# EAGLE library part CAMERA (library hw6_lib)
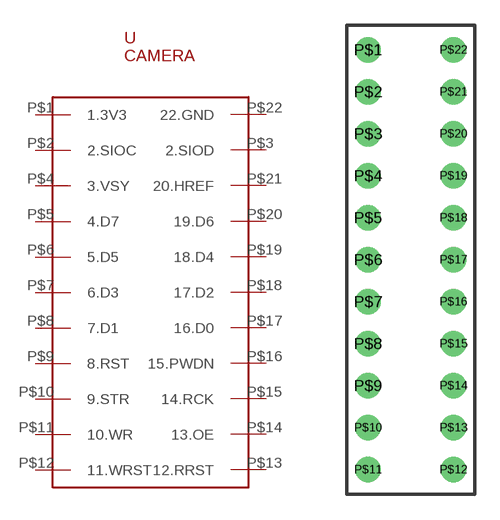
[diagram p11: symbol with the pads of CAMERA; footprint CAMERA]

Designator prefix -

## CAMERA  [CAMERA]
P$1  1.3V3
P$2  2.SIOC
P$3  2.SIOD
P$4  3.VSY
P$5  4.D7
P$6  5.D5
P$7  6.D3
P$8  7.D1
P$9  8.RST
P$10  9.STR
P$11  10.WR
P$12  11.WRST
P$13  12.RRST
P$14  13.OE
P$15  14.RCK
P$16  15.PWDN
P$17  16.D0
P$18  17.D2
P$19  18.D4
P$20  19.D6
P$21  20.HREF
P$22  22.GND

## Footprint CAMERA (pad centres in mm)
drill 1: P$1 0,12.5; P$2 0,10; P$3 0,7.5; P$4 0,5; P$5 0,2.5; P$6 0,0; P$7 0,-2.5; P$8 0,-5; P$9 0,-7.5; P$10 0,-10; P$11 0,-12.5; P$12 5.08,-12.5; P$13 5.08,-10; P$14 5.08,-7.5; P$15 5.08,-5; P$16 5.08,-2.5; P$17 5.08,0; P$18 5.08,2.5; P$19 5.08,5; P$20 5.08,7.5; P$21 5.08,10; P$22 5.08,12.5